# Altium footprint library L1IG0750100000000.PcbLib: 1 footprints
Each footprint in its own frame and in the unit in brackets; x right, y up, seen from the top. Pads: shape width x height; smd on the part's side, far side on the other; paste and mask are expansions set on the pad; w line width, h text height; cw(c..) or ccw(c..) is an arc to the next point about the centre after c.
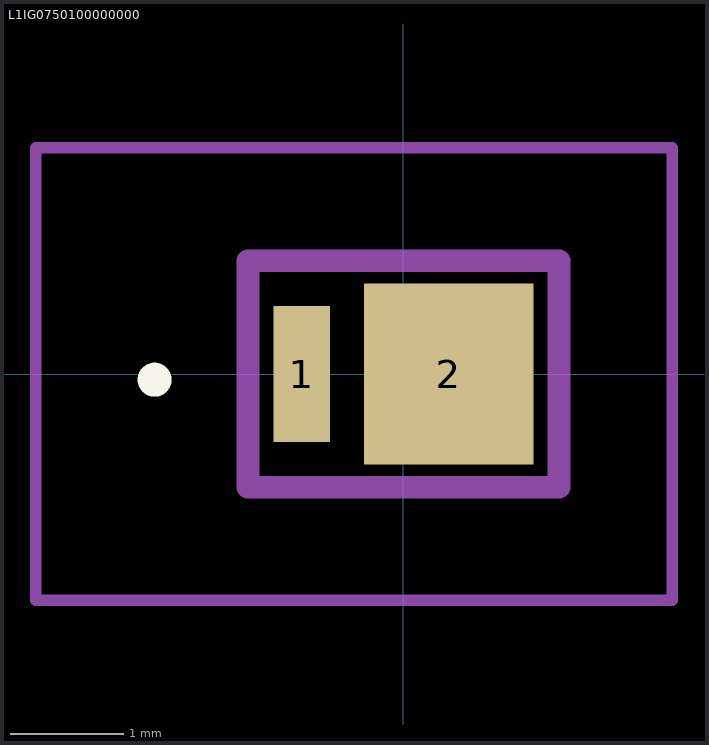
[diagram p0: the footprint, top view; thin cyan lines are the x and y axes]

## L1IG0750100000000 [mm]
pads (2):
  rect 0.5x1.2 smd: 1(-0.9,0)
  rect 1.5x1.6 smd: 2(0.4,0)
Top Overlay:
  lines w0.2: -2.2,-0.1 ccw(c-2.2,-0.05) -2.2,0 ; -2.2,-0.1 cw(c-2.2,-0.05) -2.2,0 ; -2.2,-0.1 ccw(c-2.2,-0.05) -2.2,0
Mechanical 15:
  lines w0.2: -1.375,-1 1.375,-1 1.375,1 -1.375,1 -1.375,-1
Mechanical 20:
  lines w0.1: -3.25,-2 2.375,-2 2.375,2 -3.25,2 -3.25,-2
3D body "L1IG-0750100000000.stp": height 0.6, standoff 0, extent -1.375,-1 1.375,1